# Altium schematic symbol library PS_SchematicLib.SchLib: 24 symbols
Pins are listed as number, name and electrical type; pins without a type are passive.

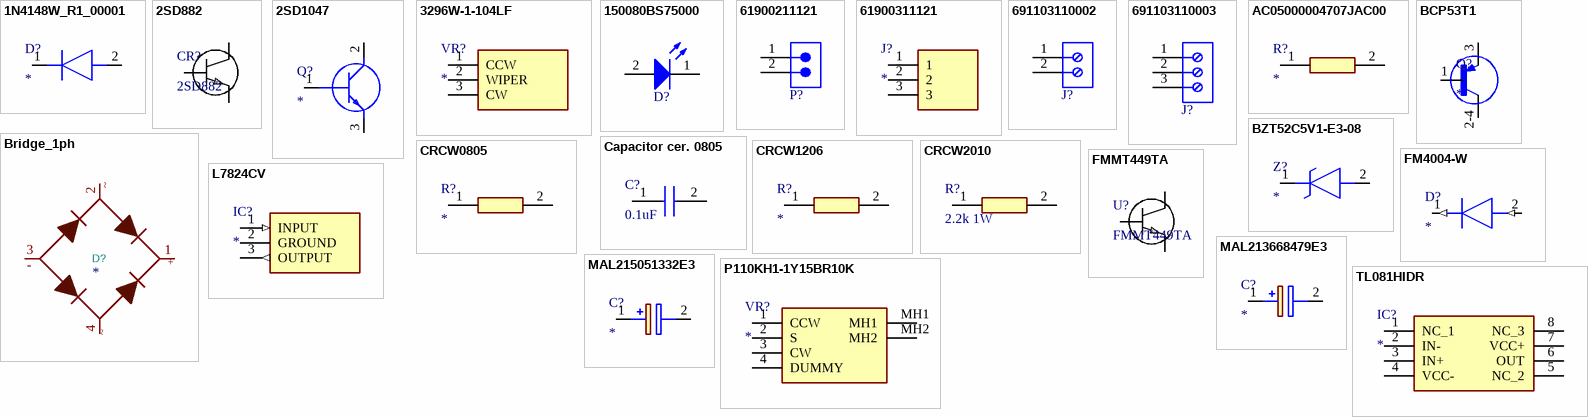
[diagram p0: symbols 1N4148W_R1_00001 to TL081HIDR]

## 1N4148W_R1_00001
designator D?
Diode; Manufacturer_Name: PANJIT; Manufacturer_Part_Number: 1N4148W_R1_00001; Datasheet Link: https://www.mouser.com/datasheet/2/1057/1N4148W-1869619.pdf; Height: 1.35mm; Mouser Part Number: 241-1N4148W_R1_00001; Mouser Price/Stock: https://www.mouser.co.uk/ProductDetail/Panjit/1N4148W_R1_00001?qs=sPbYRqrBIVnqVztCqPNVrw%3D%3D
footprint SOD3816X135N
pins: 1 K, 2 A

## 2SD882
designator CR?
No Description Available; Mfr_Name: STMicroelectronics; Type: DEV; Copyright: Copyright (C) 2023 Ultra Librarian. All rights reserved.; Manufacturer_Part_Number: 2SD882; RefDes: RefDes
footprint SOT-32_STM
pins: 1 B, 2 C, 3 E

## 2SD1047
designator Q?
Transistor BJT NPN; Manufacturer_Name: STMicroelectronics; Manufacturer_Part_Number: 2SD1047; Description: STMICROELECTRONICS - 2SD1047 - TRANSISTOR; Datasheet Link: http://www.st.com/content/ccc/resource/technical/document/datasheet/b3/86/80/4e/89/45/4b/6d/DM00026462.pdf/files/DM00026462.pdf/jcr:content/translations/en.DM00026462.pdf; Height: 5mm; Mouser Part Number: 511-2SD1047; Mouser Price/Stock: https://www.mouser.co.uk/ProductDetail/STMicroelectronics/2SD1047?qs=AHLdMMsI%252BhoLOT4krJ7z2g%3D%3D; Arrow Part Number: 2SD1047; Arrow Price/Stock: https://www.arrow.com/en/products/2sd1047/stmicroelectronics?region=nac
footprint TO545P500X1560X2360-3P
pins: 1 B, 2 C, 3 E

## 3296W-1-104LF
designator VR?
Variable Resistor; Manufacturer_Name: Bourns; Manufacturer_Part_Number: 3296W-1-104LF; Description: 3296W top adj cermet trimmer,100K 10mm Bourns 3296W Series 25-Turn Through Hole Cermet Trimmer Resistor with Pin Terminations; Datasheet Link: https://datasheet.datasheetarchive.com/originals/distributors/Datasheets-10/DSA-187647.pdf; Mouser Part Number: 652-3296W-1-104LF; Mouser Price/Stock: https://www.mouser.co.uk/ProductDetail/Bourns/3296W-1-104LF?qs=NxuKWO2Bm4Yv9t2iisRb6w%3D%3D; Arrow Part Number: 3296W-1-104LF; Arrow Price/Stock: https://www.arrow.com/en/products/3296w-1-104lf/bourns?region=europe
footprint 3296W-1
pins: 1 CCW, 2 WIPER, 3 CW

## 150080BS75000
designator D?, comment Blue, 3.2V, 140°  (value not drawn)
WL-SMCW Mono-color Chip LED Waterclear, size 0805, Blue, 3.2V, 140°; Manufacturer Part Number: 150080BS75000; Manufacturer: Wurth Elektronik; Case/Size Code: 0805; Chip Technology: InGaN; Dominant Wavelength: 470nm; Luminous Intensity: 145mcd; Peak Wavelength: 465nm; Category: Signal LEDs; Match Code: WL-SMCW; ComponentLink1Description: Website Link; ComponentLink1URL: https://www.we-online.com/redexpert/article/150080BS75000?ad; ComponentLink2Description: Datasheet Link; ComponentLink2URL: https://www.we-online.com/redexpert/spec/150080BS75000?ad; Mount: Surface Mount; Operating Temperature Max: 85°C; Operating Temperature Min: -40°C; Packaging: Tape and Reel; Length: 2mm; Width: 1.25mm; Height: 0.7mm; Emitting Color: Blue; Forward Voltage: 3.2V; Viewing Angle: 140°
footprint WL-SMCW_0805_150080xx75000 (SMD Mono-color Chip LED, body 2.0x1.25mm)
simulation model 0805_150080BS75000
pins: 1 K, 2 A

## 61900211121
designator P?  (value not drawn)
WR-WTB THT Male Vertical Locking Header, pitch 2.54mm, 2pins; Manufacturer: Wurth Elektronik; Contact Resistance: 20mΩ; Rated Current: 3A; Working Voltage: 250VAC; Withstanding Voltage: 1000VAC; ComponentLink1Description: Website Link; ComponentLink1URL: https://www.we-online.com/redexpert/article/61900211121?ad; ComponentLink2Description: Datasheet Link; ComponentLink2URL: https://www.we-online.com/redexpert/spec/61900211121?ad; Manufacturer Part Number: 61900211121; Category: Wire-to-Board Connectors; Match Code: WR-WTB; Mount: Through Hole; Operating Temperature Max: 105°C; Operating Temperature Min: -40°C; Packaging: Bag; Length: 5.08mm; Width: 5.8mm; Height: 11.5mm; Gender: Male; Number of Pins: 2; Number of Rows: 1; Orientation: Vertical; Pitch: 2.54mm
footprint 61900211121 (2.54mm Male Locking Header, 2p)
pins: 1, 2

## 61900311121
designator J?
Connector 3pin; Manufacturer_Name: Wurth Elektronik; Manufacturer_Part_Number: 61900311121; Datasheet Link: https://katalog.we-online.de/em/datasheet/61900311121.pdf; Height: 11.75mm
footprint SHDR3W79P0X254_1X3_762X580X1175P
pins: 1, 2, 3

## 691103110002
designator J?  (value not drawn)
WR-TBL Series 1031 Horizontal Entry Modular, THT, pitch 3.5mm, 2p; Manufacturer: Wurth Elektronik; Modularity: Yes; Rated Current: 10A; Working Voltage: 125V; ComponentLink1Description: Website Link; ComponentLink1URL: https://www.we-online.com/redexpert/article/691103110002?ad; ComponentLink2Description: Datasheet Link; ComponentLink2URL: https://www.we-online.com/redexpert/spec/691103110002?ad; Manufacturer Part Number: 691103110002; Category: Terminal Blocks; Match Code: WR-TBL; Mount: Through Hole; Operating Temperature Max: 105°C; Operating Temperature Min: -40°C; Packaging: Box; Application: Pressure Clamp; Number of Pins: 2; Number of Rows: 1; Orientation: Horizontal; Pitch: 3.5mm
footprint 691103110002 (3,50mm - modular - blue - Horizontal wire entry - Pressure clamp - 8,4mm height - 02p)
pins: 1, 2

## 691103110003
designator J?  (value not drawn)
WR-TBL Series 1031 Horizontal Entry Modular, THT, pitch 3.5mm, 3p; Manufacturer: Wurth Elektronik; Modularity: Yes; Rated Current: 10A; Working Voltage: 125V; ComponentLink1Description: Website Link; ComponentLink1URL: https://www.we-online.com/redexpert/article/691103110003?ad; ComponentLink2Description: Datasheet Link; ComponentLink2URL: https://www.we-online.com/redexpert/spec/691103110003?ad; Manufacturer Part Number: 691103110003; Category: Terminal Blocks; Match Code: WR-TBL; Mount: Through Hole; Operating Temperature Max: 105°C; Operating Temperature Min: -40°C; Packaging: Box; Application: Pressure Clamp; Number of Pins: 3; Number of Rows: 1; Orientation: Horizontal; Pitch: 3.5mm
footprint 691103110003 (3,50mm - modular - blue - Horizontal wire entry - Pressure clamp - 8,4mm height - 03p)
pins: 1, 2, 3

## AC05000004707JAC00
designator R?
Resistor 0.47 5W; Manufacturer_Name: Vishay; Manufacturer_Part_Number: AC05000004707JAC00; Description: Cemented Leaded Wirewound Resistors; Datasheet Link: https://www.vishay.com/docs/28730/acac-at.pdf; Mouser Part Number: 594-AC05W0R470J; Mouser Price/Stock: https://www.mouser.co.uk/ProductDetail/Vishay-Draloric/AC05000004707JAC00?qs=9EcTHFQkrt89eb2J9Rg7Vw%3D%3D; Arrow Part Number: AC05000004707JAC00; Arrow Price/Stock: https://www.arrow.com/en/products/ac05000004707jac00/vishay
footprint RESAD4800W83L1800D750
pins: 1, 2

## BCP53T1
designator Q?
Bipolar (BJT) Transistor PNP 80 V 1.5 A 50MHz 1.5 W Surface Mount SOT-223 (TO-261); MF: ON Semiconductor; MP: BCP53T1; Package: TO-261-4 ON Semiconductor; Price: None; Value: *; SnapEDA_Link: https://www.snapeda.com/parts/BCP53T1/Onsemi/view-part/?ref=snap; Availability: In Stock; Check_prices: https://www.snapeda.com/parts/BCP53T1/Onsemi/view-part/?ref=eda
footprint TRANS_BCP53T1
pins: 1 B, 2 C, 2-4 C, 3 E

## Bridge_1ph
designator D?
ki_keywords: Bridge 1 phase; ki_description: Bridge_1_phase; Datasheet: https://diotec.com/de/produktliste/B1.html
footprint KBPCxxxxFP
footprint KBPCxxxxWP
pins: 1 +, 2 Input ~, 3 -, 4 Input ~
text: ~

## BZT52C5V1-E3-08
designator Z?
Zener Diode; Manufacturer_Name: Vishay; Manufacturer_Part_Number: BZT52C5V1-E3-08; Description: Zener Diodes 5.1 Volt 0.5W 5%; Datasheet Link: https://www.vishay.com/docs/85760/bzt52.pdf; Height: 1.35mm; Mouser Part Number: 78-BZT52C5V1-E3-08; Mouser Price/Stock: https://www.mouser.co.uk/ProductDetail/Vishay-Semiconductors/BZT52C5V1-E3-08?qs=KP8Io%2FXyE5QYxn8yJkvjqQ%3D%3D; Arrow Part Number: BZT52C5V1-E3-08; Arrow Price/Stock: https://www.arrow.com/en/products/bzt52c5v1-e3-08/vishay?region=nac
footprint SOD3716X135N
pins: 1 K, 2 A

## Capacitor cer. 0805
designator C?, comment 0.1uF
Capacitor C2012X7T2E104K125AE; Manufacturer_Name: TDK; Description: MULTILAYER CERAMIC CHIP CAPACITORS; Datasheet Link: https://product.tdk.com/info/en/catalog/datasheets/mlcc_commercial_midvoltage_en.pdf; Height: 1.45mm; Manufacturer_Part_Number: C2012X7T2E104K125AE; Mouser Part Number: 810-C2012X7T2E104KST; Mouser Price/Stock: https://www.mouser.co.uk/ProductDetail/TDK/C2012X7T2E104K125AE?qs=LcTL%2F5vFEzGYUjuxGhm2jA%3D%3D; Arrow Part Number: C2012X7T2E104K125AE; Arrow Price/Stock: https://www.arrow.com/en/products/c2012x7t2e104k125ae/tdk?region=nac
footprint CAPC2012X145N
pins: 1, 2

## CRCW0805
designator R?
Resistor; Manufacturer_Name: Vishay; Manufacturer_Part_Number: CRCW080582R0FKEAHP; Description: VISHAY - CRCW080582R0FKEAHP - RES; Datasheet Link: https://componentsearchengine.com/Datasheets/1/CRCW08051R00FKEAHP.pdf; Height: 0.6mm; Mouser Part Number: 71-CRCW080582R0FKEAH; Mouser Price/Stock: https://www.mouser.com/Search/Refine.aspx?Keyword=71-CRCW080582R0FKEAH
footprint RESC2012X60N
pins: 1, 2

## CRCW1206
designator R?
Resistor; Manufacturer_Name: Vishay; Manufacturer_Part_Number: CRCW080582R0FKEAHP; Description: VISHAY - CRCW080582R0FKEAHP - RES; Datasheet Link: https://componentsearchengine.com/Datasheets/1/CRCW08051R00FKEAHP.pdf; Height: 0.6mm; Mouser Part Number: 71-CRCW080582R0FKEAH; Mouser Price/Stock: https://www.mouser.com/Search/Refine.aspx?Keyword=71-CRCW080582R0FKEAH
footprint RES_CRCW_1206_VIS-M
pins: 1, 2

## CRCW2010
designator R?, comment 2.2k 1W
Resistor 2.2k 1W CRCW20102K20JNEFHP; Manufacturer_Name: ROHM Semiconductor; Manufacturer_Part_Number: ESR10EZPJ472; Datasheet Link: https://componentsearchengine.com/Datasheets/2/ESR10EZPJ472.pdf; Height: 0.65mm
footprint RESC5025X70N
pins: 1, 2

## FM4004-W
designator D?
Diode; Manufacturer_Name: Rectron; Manufacturer_Part_Number: FM4004-W; Description: Rectifiers 1N4004 1A 400V; Datasheet Link: https://componentsearchengine.com/Datasheets/1/FM4004-W.pdf; Height: 2.31mm; Mouser Part Number: 583-FM4004; Mouser Price/Stock: https://www.mouser.co.uk/ProductDetail/Rectron/FM4004-W?qs=Iw9Ubr57Px3IHNH1bE4l9w%3D%3D; Arrow Part Number: FM4004-W; Arrow Price/Stock: https://www.arrow.com/en/products/fm4004-w/rectron?region=nac
footprint DIONM5025X231N
pins: 1 K (out), 2 A (in)

## FMMT449TA
designator U?
No Description Available; Mfr_Name: Diodes Inc; Copyright: Copyright (C) 2023 Ultra Librarian. All rights reserved.; Manufacturer_Part_Number: FMMT449TA; RefDes: RefDes; Type: DEV
footprint SOT-23_2P9X1P3_DIO
pins: 1 GND (power), 2 RESET, 3 VCC (power)

## L7824CV
designator IC?
Integrated Circuit; Manufacturer_Name: STMicroelectronics; Description: L7824CV; Datasheet Link: http://www.st.com/web/en/resource/technical/document/datasheet/CD00000444.pdf; Height: 4.6mm; Manufacturer_Part_Number: L7824CV; Mouser Part Number: 511-L7824CV; Mouser Price/Stock: https://www.mouser.co.uk/ProductDetail/STMicroelectronics/L7824CV?qs=GQP%2FxgjKl96cWFC%252B68wxSg%3D%3D; Arrow Part Number: L7824CV; Arrow Price/Stock: https://www.arrow.com/en/products/l7824cv/stmicroelectronics?region=europe
footprint TO270P460X1020X2008-3P
pins: 1 INPUT (in), 2 GROUND (power), 3 OUTPUT (out)

## MAL213668479E3
designator C?
Capacitor Polarised; Manufacturer_Name: Vishay; Manufacturer_Part_Number: MAL213668479E3; Description: Vishay Aluminium Electrolytic Capacitor 47uF 63V dc 10mm 136 Series; Datasheet Link: https://www.vishay.com/docs/28321/136rvi.pdf; Height: 13.5mm; Mouser Part Number: 594-2222-136-68479; Mouser Price/Stock: https://www.mouser.com/Search/Refine.aspx?Keyword=594-2222-136-68479; Arrow Part Number: MAL213668479E3; Arrow Price/Stock: https://www.arrow.com/en/products/mal213668479e3/vishay
footprint CAPPRD500W60D1050H1350
pins: 1 +, 2 -

## MAL215051332E3
designator C?
Capacitor Polarised; Manufacturer_Name: Vishay; Manufacturer_Part_Number: MAL215051332E3; Description: Aluminum Electrolytic Capacitors - Radial Leaded 3300uF 50V 20%; Datasheet Link: https://componentsearchengine.com/Datasheets/2/MAL215051332E3.pdf; Height: 42.5mm; Mouser Part Number: 594-MAL215051332E3; Mouser Price/Stock: https://www.mouser.co.uk/ProductDetail/Vishay-BC-Components/MAL215051332E3?qs=u16ybLDytRanS1IdIGWpyw%3D%3D
footprint CAPPRD750W80D1850H4250
pins: 1 +, 2 -

## P110KH1-1Y15BR10K
designator VR?
Variable Resistor; Manufacturer_Name: TT Electronics; Manufacturer_Part_Number: P110KH1-1Y15BR10K; Description: Potentiometers 1/20W 10K Ohms 20% 11mm ROTARY POT; Datasheet Link: https://www.ttelectronics.com/TTElectronics/media/ProductFiles/Datasheet/P110.pdf; Height: 23mm; Mouser Part Number: 858-P110KH11Y15BR10K; Mouser Price/Stock: https://www.mouser.co.uk/ProductDetail/BI-Technologies-TT-Electronics/P110KH1-1Y15BR10K?qs=56eeD6vBg8iIioluBaEiNw%3D%3D
footprint P110KH11Y15BR10K
pins: 1 CCW, 2 S, 3 CW, 4 DUMMY, MH1, MH2

## TL081HIDR
designator IC?
Integrated Circuit; Manufacturer_Name: Texas Instruments; Manufacturer_Part_Number: TL081HIDR; Datasheet Link: https://www.ti.com/lit/ds/symlink/tl081h.pdf?ts=1631512685982&ref_url=https%253A%252F%252Fcomponentsearchengine.com%252F; Height: 1.75mm; Mouser Part Number: 595-TL081HIDR; Mouser Price/Stock: https://www.mouser.co.uk/ProductDetail/Texas-Instruments/TL081HIDR?qs=pBJMDPsKWf2IEA%252Bv86wIaw%3D%3D; Arrow Part Number: TL081HIDR; Arrow Price/Stock: https://www.arrow.com/en/products/tl081hidr/texas-instruments?region=nac
footprint SOIC127P600X175-8N
pins: 1 NC_1, 2 IN-, 3 IN+, 4 VCC-, 5 NC_2, 6 OUT, 7 VCC+, 8 NC_3